# EAGLE library part 79107-42_S (library untitled)
RECEPTACAL
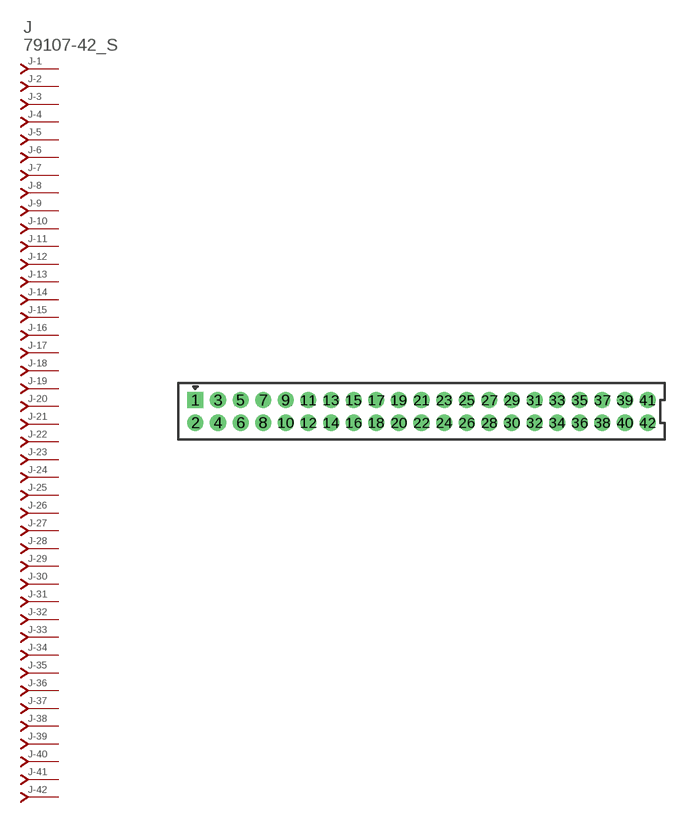
[diagram p240: symbol with the pads of 79107-42; footprint 79107-42]

Designator prefix J; gates -1=J-NV -2=J-N -3=J-N -4=J-N -5=J-N -6=J-N -7=J-N -8=J-N -9=J-N -10=J-N -11=J-N -12=J-N -13=J-N -14=J-N -15=J-N -16=J-N -17=J-N -18=J-N -19=J-N -20=J-N -21=J-N -22=J-N -23=J-N -24=J-N -25=J-N -26=J-N -27=J-N -28=J-N -29=J-N -30=J-N -31=J-N -32=J-N -33=J-N -34=J-N -35=J-N -36=J-N -37=J-N -38=J-N -39=J-N -40=J-N -41=J-N -42=J-N

## 79107-42_S  [79107-42]
1  -1:J  pas
2  -2:J  pas
3  -3:J  pas
4  -4:J  pas
5  -5:J  pas
6  -6:J  pas
7  -7:J  pas
8  -8:J  pas
9  -9:J  pas
10  -10:J  pas
11  -11:J  pas
12  -12:J  pas
13  -13:J  pas
14  -14:J  pas
15  -15:J  pas
16  -16:J  pas
17  -17:J  pas
18  -18:J  pas
19  -19:J  pas
20  -20:J  pas
21  -21:J  pas
22  -22:J  pas
23  -23:J  pas
24  -24:J  pas
25  -25:J  pas
26  -26:J  pas
27  -27:J  pas
28  -28:J  pas
29  -29:J  pas
30  -30:J  pas
31  -31:J  pas
32  -32:J  pas
33  -33:J  pas
34  -34:J  pas
35  -35:J  pas
36  -36:J  pas
37  -37:J  pas
38  -38:J  pas
39  -39:J  pas
40  -40:J  pas
41  -41:J  pas
42  -42:J  pas

## Footprint 79107-42 (pad centres in mm)
RECEPTACAL Dual Row, Vertical, Through-Hole
drill 0.914 square: 1 -20,1
drill 0.914 round: 2 -20,-1; 3 -18,1; 4 -18,-1; 5 -16,1; 6 -16,-1; 7 -14,1; 8 -14,-1; 9 -12,1; 10 -12,-1; 11 -10,1; 12 -10,-1; 13 -8,1; 14 -8,-1; 15 -6,1; 16 -6,-1; 17 -4,1; 18 -4,-1; 19 -2,1; 20 -2,-1; 21 0,1; 22 0,-1; 23 2,1; 24 2,-1; 25 4,1; 26 4,-1; 27 6,1; 28 6,-1; 29 8,1; 30 8,-1; 31 10,1; 32 10,-1; 33 12,1; 34 12,-1; 35 14,1; 36 14,-1; 37 16,1; 38 16,-1; 39 18,1; 40 18,-1; 41 20,1; 42 20,-1